# Altium schematic symbol library bridgerecitief.SchLib: 1 symbol
Pins are listed as number, name and electrical type; pins without a type are passive.

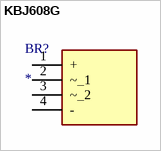
[diagram p0: symbol KBJ608G]

## KBJ608G
designator BR?
Bridge Rectifier; Manufacturer_Name: Diodes Inc.; Manufacturer_Part_Number: KBJ608G; Datasheet Link: https://componentsearchengine.com//KBJ608G.pdf; Height: 4.8mm; Mouser2 Part Number: 621-KBJ608G; Mouser2 Price/Stock: https://www.mouser.com/Search/Refine.aspx?Keyword=621-KBJ608G
footprint TO750P480X2500X1900-4P
pins: 1 +, 2 ~_1, 3 ~_2, 4 -